# Altium footprint library Terminal_18x18_M8.PcbLib: 1 footprints
Each footprint in its own frame and in the unit in brackets; x right, y up, seen from the top. Pads: shape width x height; smd on the part's side, far side on the other; paste and mask are expansions set on the pad; w line width, h text height; cw(c..) or ccw(c..) is an arc to the next point about the centre after c.
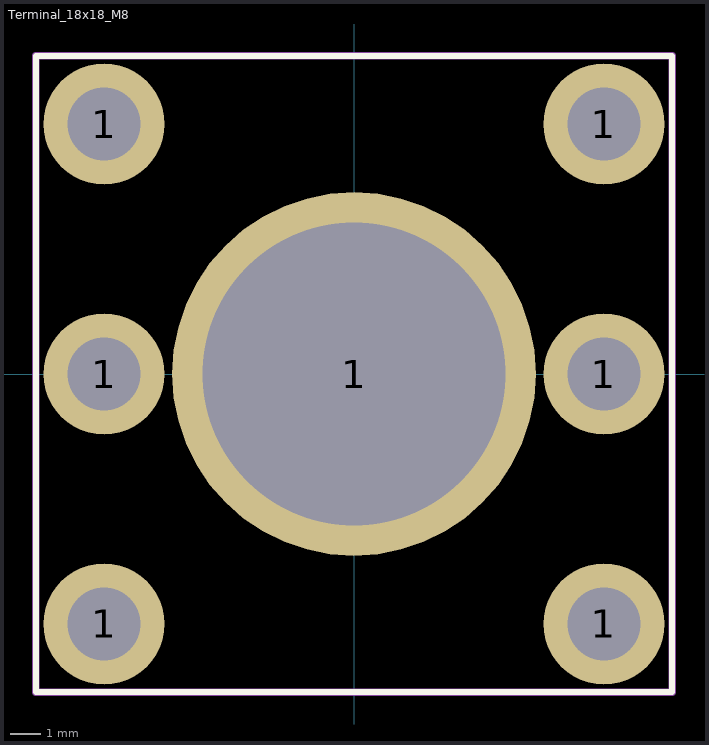
[diagram p0: the footprint, top view; thin cyan lines are the x and y axes]

## Terminal_18x18_M8 [mm]
pads (7):
  round 4 hole 2.4: 1(-8.25,-8.25) 1(-8.25,0) 1(-8.25,8.25) 1(8.25,-8.25) 1(8.25,0) 1(8.25,8.25)
  round 12 hole 10: 1(0,0)
Top Overlay:
  lines w0.2: -10.5,-10.5 -10.5,10.5 10.5,10.5 10.5,-10.5 -10.5,-10.5
Top Assembly:
  lines w0.254: -0.5,0 0.5,0 ; 0,-0.5 0,0.5 ; -10.5,-10.5 -6.3,-10.5 10.5,-10.5 10.5,10.5 -10.5,10.5 -10.5,-10.5
  text "'.Designator'" at 0,0 h0.7
3D body "Клемма на плату 180А М8.STEP": height 12.5, standoff -3.5, extent -9,-9 9,9